# EAGLE library part M.2-B-KEY (library ds_con)
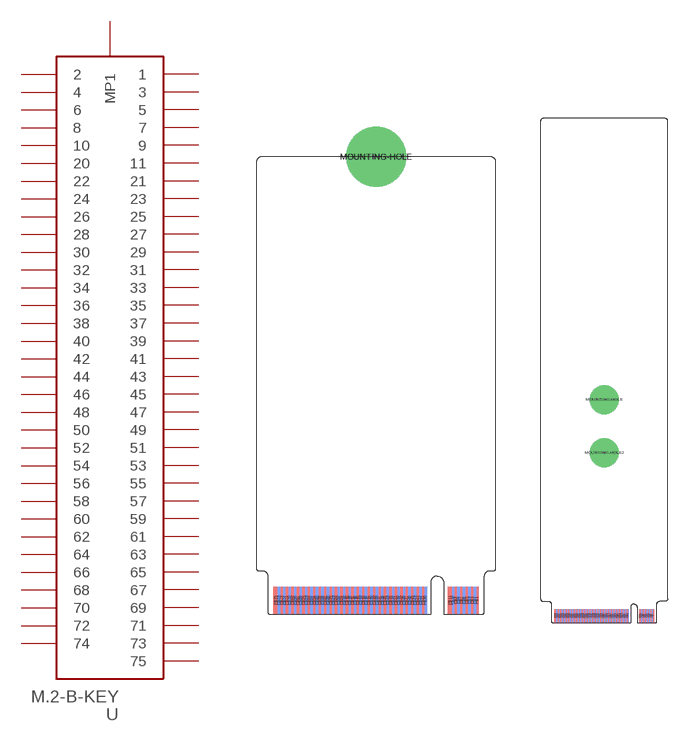
[diagram p20: symbol with the pads of M.2-B-KEY; footprints M.2-B-KEY, M.2-B-KEY-2280-ADAPTER]

Designator prefix -

## M.2-B-KEY  [M.2-B-KEY]
MOUNTING-HOLE  MP1
P$1  1
P$2  2
P$3  3
P$4  4
P$5  5
P$6  6
P$7  7
P$8  8
P$9  9
P$10  10
P$11  11
P$20  20
P$21  21
P$22  22
P$23  23
P$24  24
P$25  25
P$26  26
P$27  27
P$28  28
P$29  29
P$30  30
P$31  31
P$32  32
P$33  33
P$34  34
P$35  35
P$36  36
P$37  37
P$38  38
P$39  39
P$40  40
P$41  41
P$42  42
P$43  43
P$44  44
P$45  45
P$46  46
P$47  47
P$48  48
P$49  49
P$50  50
P$51  51
P$52  52
P$53  53
P$54  54
P$55  55
P$56  56
P$57  57
P$58  58
P$59  59
P$60  60
P$61  61
P$62  62
P$63  63
P$64  64
P$65  65
P$66  66
P$67  67
P$68  68
P$69  69
P$70  70
P$71  71
P$72  72
P$73  73
P$74  74
P$75  75

## M.2-B-KEY2280-ADAPTER  [M.2-B-KEY-2280-ADAPTER]
MOUNTING-HOLE  MP1
MOUNTING-HOLE2  MP1
P$1  1
P$2  2
P$3  3
P$4  4
P$5  5
P$6  6
P$7  7
P$8  8
P$9  9
P$10  10
P$11  11
P$20  20
P$21  21
P$22  22
P$23  23
P$24  24
P$25  25
P$26  26
P$27  27
P$28  28
P$29  29
P$30  30
P$31  31
P$32  32
P$33  33
P$34  34
P$35  35
P$36  36
P$37  37
P$38  38
P$39  39
P$40  40
P$41  41
P$42  42
P$43  43
P$44  44
P$45  45
P$46  46
P$47  47
P$48  48
P$49  49
P$50  50
P$51  51
P$52  52
P$53  53
P$54  54
P$55  55
P$56  56
P$57  57
P$58  58
P$59  59
P$60  60
P$61  61
P$62  62
P$63  63
P$64  64
P$65  65
P$66  66
P$67  67
P$68  68
P$69  69
P$70  70
P$71  71
P$72  72
P$73  73
P$74  74
P$75  75

## Footprint M.2-B-KEY (pad centres in mm)
drill 3.5 pad 5.5: MOUNTING-HOLE 0,42
smd 0.35 x 2.5: P$1 9.25,1.25; P$3 8.75,1.25; P$5 8.25,1.25; P$7 7.75,1.25; P$9 7.25,1.25; P$11 6.75,1.25; P$21 4.25,1.25; P$23 3.75,1.25; P$25 3.25,1.25; P$27 2.75,1.25; P$29 2.25,1.25; P$31 1.75,1.25; P$33 1.25,1.25; P$35 0.75,1.25; P$37 0.25,1.25; P$39 -0.25,1.25; P$41 -0.75,1.25; P$43 -1.25,1.25; P$45 -1.75,1.25; P$47 -2.25,1.25; P$49 -2.75,1.25; P$51 -3.25,1.25; P$53 -3.75,1.25; P$55 -4.25,1.25; P$57 -4.75,1.25; P$59 -5.25,1.25; P$61 -5.75,1.25; P$63 -6.25,1.25; P$65 -6.75,1.25; P$67 -7.25,1.25; P$69 -7.75,1.25; P$71 -8.25,1.25; P$73 -8.75,1.25; P$75 -9.25,1.25
smd 0.35 x 2.5 bottom: P$2 9,1.25; P$4 8.5,1.25; P$6 8,1.25; P$8 7.5,1.25; P$10 7,1.25; P$20 4.5,1.25; P$22 4,1.25; P$24 3.5,1.25; P$26 3,1.25; P$28 2.5,1.25; P$30 2,1.25; P$32 1.5,1.25; P$34 1,1.25; P$36 0.5,1.25; P$38 0,1.25; P$40 -0.5,1.25; P$42 -1,1.25; P$44 -1.5,1.25; P$46 -2,1.25; P$48 -2.5,1.25; P$50 -3,1.25; P$52 -3.5,1.25; P$54 -4,1.25; P$56 -4.5,1.25; P$58 -5,1.25; P$60 -5.5,1.25; P$62 -6,1.25; P$64 -6.5,1.25; P$66 -7,1.25; P$68 -7.5,1.25; P$70 -8,1.25; P$72 -8.5,1.25; P$74 -9,1.25

## Footprint M.2-B-KEY-2280-ADAPTER (pad centres in mm)
drill 3.5 pad 5.5: MOUNTING-HOLE 0,42; MOUNTING-HOLE2 0,32
smd 0.35 x 2.5: P$1 9.25,1.25; P$3 8.75,1.25; P$5 8.25,1.25; P$7 7.75,1.25; P$9 7.25,1.25; P$11 6.75,1.25; P$21 4.25,1.25; P$23 3.75,1.25; P$25 3.25,1.25; P$27 2.75,1.25; P$29 2.25,1.25; P$31 1.75,1.25; P$33 1.25,1.25; P$35 0.75,1.25; P$37 0.25,1.25; P$39 -0.25,1.25; P$41 -0.75,1.25; P$43 -1.25,1.25; P$45 -1.75,1.25; P$47 -2.25,1.25; P$49 -2.75,1.25; P$51 -3.25,1.25; P$53 -3.75,1.25; P$55 -4.25,1.25; P$57 -4.75,1.25; P$59 -5.25,1.25; P$61 -5.75,1.25; P$63 -6.25,1.25; P$65 -6.75,1.25; P$67 -7.25,1.25; P$69 -7.75,1.25; P$71 -8.25,1.25; P$73 -8.75,1.25; P$75 -9.25,1.25
smd 0.35 x 2.5 bottom: P$2 9,1.25; P$4 8.5,1.25; P$6 8,1.25; P$8 7.5,1.25; P$10 7,1.25; P$20 4.5,1.25; P$22 4,1.25; P$24 3.5,1.25; P$26 3,1.25; P$28 2.5,1.25; P$30 2,1.25; P$32 1.5,1.25; P$34 1,1.25; P$36 0.5,1.25; P$38 0,1.25; P$40 -0.5,1.25; P$42 -1,1.25; P$44 -1.5,1.25; P$46 -2,1.25; P$48 -2.5,1.25; P$50 -3,1.25; P$52 -3.5,1.25; P$54 -4,1.25; P$56 -4.5,1.25; P$58 -5,1.25; P$60 -5.5,1.25; P$62 -6,1.25; P$64 -6.5,1.25; P$66 -7,1.25; P$68 -7.5,1.25; P$70 -8,1.25; P$72 -8.5,1.25; P$74 -9,1.25